# EAGLE library part SN74ALVC7804 (library Oscilloscope_Components v39)
512 X 18 FIFO Memory Storage Device
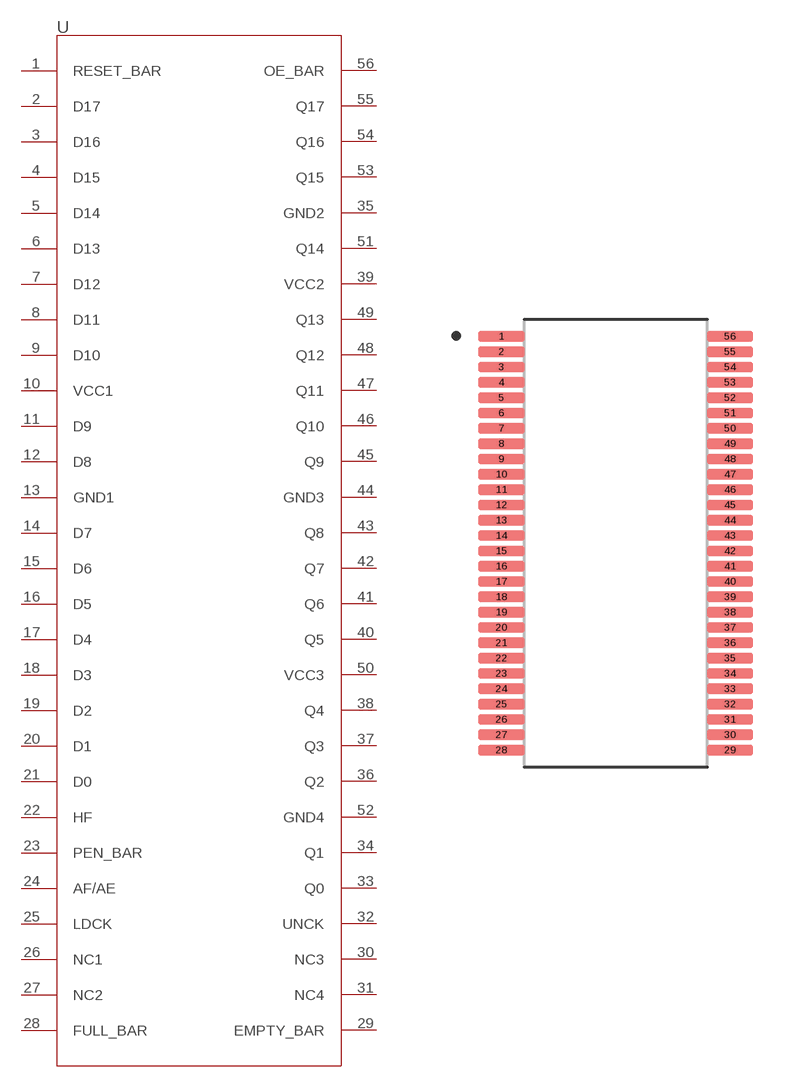
[diagram p0: symbol with the pads of SOP63P1035X279-56N; footprint SOP63P1035X279-56N]

Designator prefix -

## SN74ALVC7804  [SOP63P1035X279-56N]
1  RESET_BAR
2  D17
3  D16
4  D15
5  D14
6  D13
7  D12
8  D11
9  D10
10  VCC1
11  D9
12  D8
13  GND1
14  D7
15  D6
16  D5
17  D4
18  D3
19  D2
20  D1
21  D0
22  HF
23  PEN_BAR
24  AF/AE
25  LDCK
26  NC1
27  NC2
28  FULL_BAR
29  EMPTY_BAR
30  NC3
31  NC4
32  UNCK
33  Q0
34  Q1
35  GND2
36  Q2
37  Q3
38  Q4
39  VCC2
40  Q5
41  Q6
42  Q7
43  Q8
44  GND3
45  Q9
46  Q10
47  Q11
48  Q12
49  Q13
50  VCC3
51  Q14
52  GND4
53  Q15
54  Q16
55  Q17
56  OE_BAR

## Footprint SOP63P1035X279-56N (pad centres in mm)
smd 1.9 x 0.44: 1 -4.74,8.572; 2 -4.74,7.938; 3 -4.74,7.303; 4 -4.74,6.668; 5 -4.74,6.032; 6 -4.74,5.397; 7 -4.74,4.763; 8 -4.74,4.128; 9 -4.74,3.493; 10 -4.74,2.857; 11 -4.74,2.223; 12 -4.74,1.587; 13 -4.74,0.953; 14 -4.74,0.318; 15 -4.74,-0.318; 16 -4.74,-0.953; 17 -4.74,-1.587; 18 -4.74,-2.223; 19 -4.74,-2.857; 20 -4.74,-3.493; 21 -4.74,-4.128; 22 -4.74,-4.763; 23 -4.74,-5.397; 24 -4.74,-6.032; 25 -4.74,-6.668; 26 -4.74,-7.303; 27 -4.74,-7.938; 28 -4.74,-8.572; 29 4.74,-8.572; 30 4.74,-7.938; 31 4.74,-7.303; 32 4.74,-6.668; 33 4.74,-6.032; 34 4.74,-5.397; 35 4.74,-4.763; 36 4.74,-4.128; 37 4.74,-3.493; 38 4.74,-2.857; 39 4.74,-2.223; 40 4.74,-1.587; 41 4.74,-0.953; 42 4.74,-0.318; 43 4.74,0.318; 44 4.74,0.953; 45 4.74,1.587; 46 4.74,2.223; 47 4.74,2.857; 48 4.74,3.493; 49 4.74,4.128; 50 4.74,4.763; 51 4.74,5.397; 52 4.74,6.032; 53 4.74,6.668; 54 4.74,7.303; 55 4.74,7.938; 56 4.74,8.572